# EAGLE library part 6DOF-DIGITAL (library SparkFun-Breakouts)
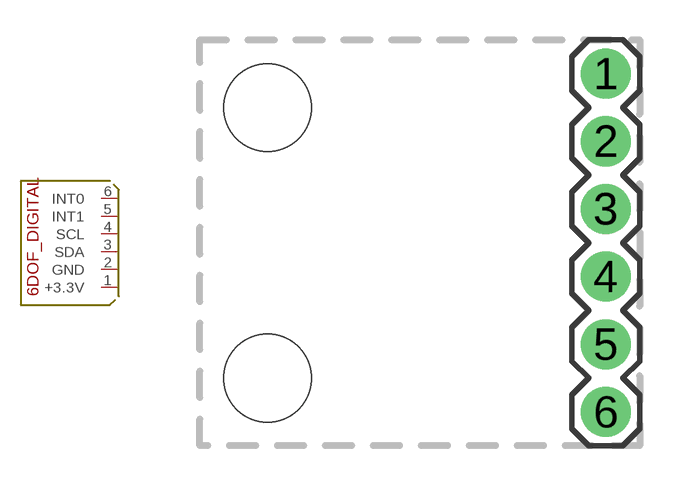
[diagram p0: symbol with the pads of 6DOF_DIGITAL_V10; footprint 6DOF_DIGITAL_V10]

Designator prefix -

## 6DOF-DIGITAL  [6DOF_DIGITAL_V10]
1  +3.3V
2  GND
3  SDA
4  SCL
5  INT1
6  INT0

## Footprint 6DOF_DIGITAL_V10 (pad centres in mm)
drill 1.016 pad 1.88: 1 15.24,13.97; 2 15.24,11.43; 3 15.24,8.89; 4 15.24,6.35; 5 15.24,3.81; 6 15.24,1.27
hole 3.302 at 2.54,12.7
hole 3.302 at 2.54,2.54